# Altium schematic symbol library 2022_AESK_UAV_POWER.SchLib: 7 symbols
Pins are listed as number, name and electrical type; pins without a type are passive.

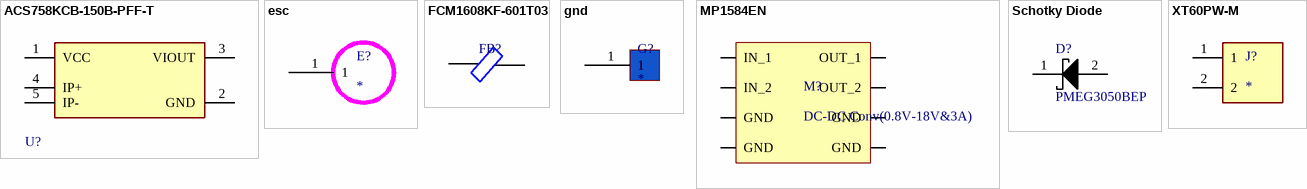
[diagram p0: symbols ACS758KCB-150B-PFF-T to XT60PW-M]

## ACS758KCB-150B-PFF-T
designator U?  (value not drawn)
footprint Allegro_MicroSystems_LLC_CB-5-PFF_MFG
pins: 1 VCC (power), 2 GND (power), 3 VIOUT, 4 IP+, 5 IP-

## esc
designator E?
footprint esc
pins: 1

## FCM1608KF-601T03
designator FB?, comment Ferrite Bead  (value not drawn)
footprint FCM1608KF-601T03
pins: 1, 2

## gnd
designator G?
footprint gnd
pins: 1

## MP1584EN
designator M?, comment DC-DC Conv(0.8V-18V&3A)
footprint mp
pins: 1 IN_1, 2 IN_2, 3 OUT_1, 4 OUT_2, 5 GND, 6 GND, 7 GND, 8 GND

## Schotky Diode
designator D?, comment PMEG3050BEP
Schotky Diode; Manufacturer: Nexperia USA; Manufacturer Part Number: PMEG3050BEP,115; Supplier 1: Digi-Key; Supplier Part Number 1: 1727-5207-1-ND; Stock 1: 62590; Pricing 1: 1=0.44, 10=0.373, 100=0.2786, 500=0.2189, 1000=0.1692 (USD)
footprint SOD470X100-2N
pins: 1 K, 2 A

## XT60PW-M
designator J?
MP: XT60PW-M; MF: AMASS; SnapEDA_Link: https://www.snapeda.com/parts/XT60PW-M%20/AMASS/view-part/3075559/?ref=snap; Availability: Unavailable; Price: None; Value: *; Package: Package Analog Devices
footprint AMASS_XT60PW-M
pins: 1, 2